# EAGLE library part MINI_ICSP (library CPSS_CONNECTOR)
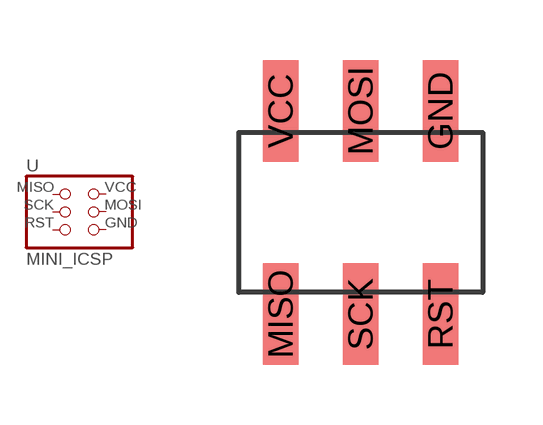
[diagram p4: symbol with the pads of NPNN032FFKS-RC; footprint NPNN032FFKS-RC]

Designator prefix -

## MINI_ICSP  [NPNN032FFKS-RC]
GND  6  pas
MISO  1  pas
MOSI  4  pas
RST  5  pas
SCK  3  pas
VCC  2  pas

## Footprint NPNN032FFKS-RC (pad centres in mm)
smd 0.89 x 2.54: GND 2,2.54; MISO -2,-2.54; MOSI 0,2.54; RST 2,-2.54; SCK 0,-2.54; VCC -2,2.54